# Altium integrated library Maxim Real-Time Clocks (RTCs).IntLib: 548 symbols (part 13 of 13)
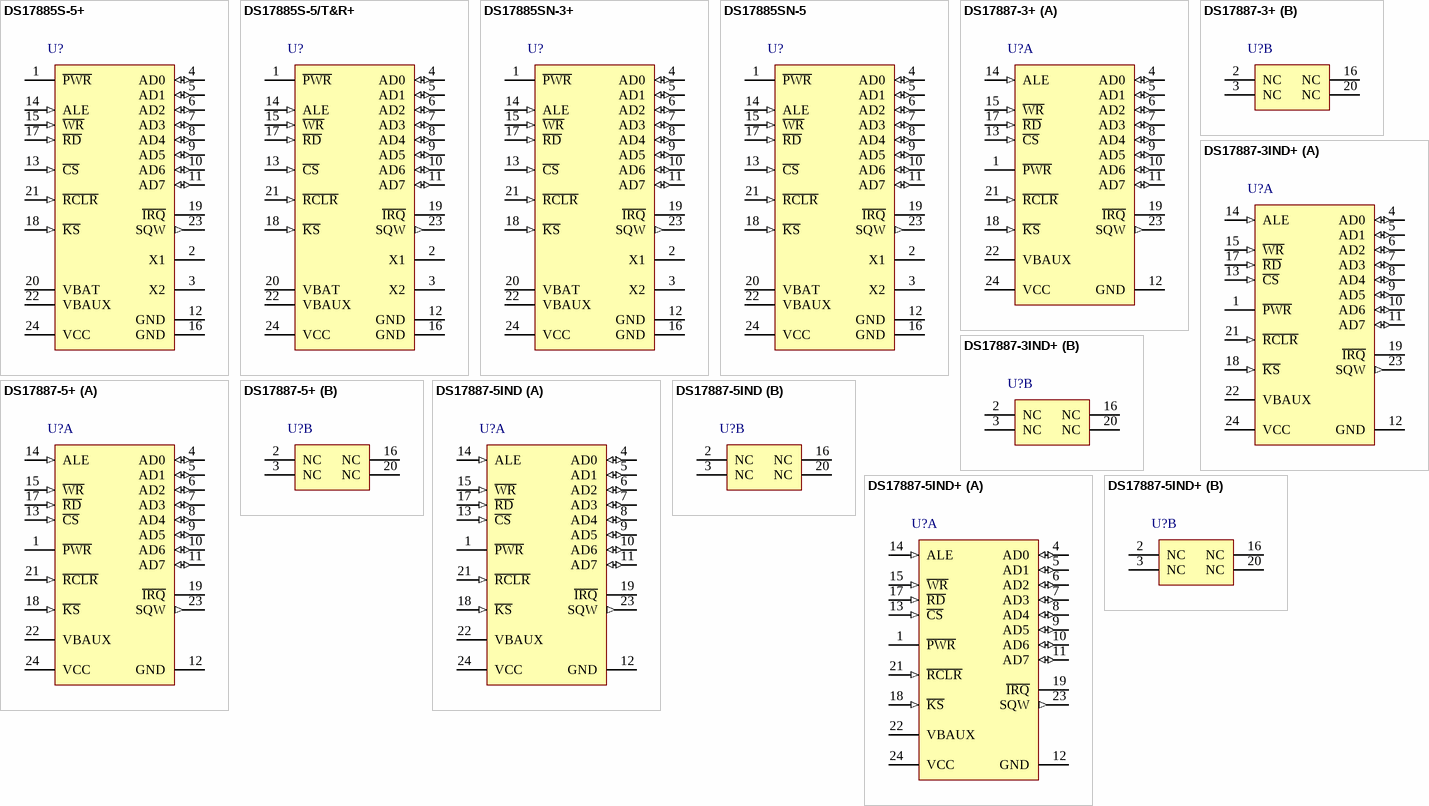
[diagram p33: symbols DS17885S-5+ to DS17887-5IND+]

## DS17885SN-3+
designator U?
Real-Time Clock, 8KB Extended Battery-Backed NV RAM, 3.0V, 24-Pin SO, -40 to 85 degC, Pb-Free; DatasheetVersion: Rev 1, Apr-2010; PackageVersion: revD, 2010; PackageReference: W24+10; PackageDescription: 24-Pin Small-Outline IC, Wide (0.3in), 1.27 mm Pitch, SOIC (W), Pb-Free; Code_JEDEC: MS-013-AD; ComponentLink1Description: Manufacturer URL; ComponentLink1URL: http://www.maxim-ic.com; ComponentLink2Description: Datasheet; ComponentLink2URL: http://datasheets.maxim-ic.com/en/ds/DS17285-DS17887.pdf; ComponentLink3Description: Package Specification; ComponentLink3URL: http://pdfserv.maxim-ic.com/package_dwgs/21-0042.PDF
footprint W24+10_N (SOIC, 24-Leads, Body 15.4x7.5mm, Pitch 1.27mm, IPC Medium Density)
footprint W24+10_L (SOIC, 24-Leads, Body 15.4x7.5mm, Pitch 1.27mm, IPC High Density)
footprint W24+10_M (SOIC, 24-Leads, Body 15.4x7.5mm, Pitch 1.27mm, IPC Low Density)
pins: 1 ~{PWR} (oc), 2 X1, 3 X2, 4 AD0 (io), 5 AD1 (io), 6 AD2 (io), 7 AD3 (io), 8 AD4 (io), 9 AD5 (io), 10 AD6 (io), 11 AD7 (io), 12 GND (power), 13 ~{CS} (in), 14 ALE (in), 15 ~{WR} (in), 16 GND (power), 17 ~{RD} (in), 18 ~{KS} (in), 19 ~{IRQ} (hiz), 20 VBAT (power), 21 ~{RCLR} (in), 22 VBAUX (power), 23 SQW (out), 24 VCC (power)

## DS17885SN-5
designator U?
Real-Time Clock, 8KB Extended Battery-Backed NV RAM, 5.0V, 24-Pin SO, -40 to 85 degC; DatasheetVersion: Rev 1, Apr-2010; PackageVersion: revD, 2010; PackageReference: W24-10; PackageDescription: 24-Pin Small-Outline IC, Wide (0.3in), 1.27 mm Pitch, SOIC (W); Code_JEDEC: MS-013-AD; ComponentLink1Description: Manufacturer URL; ComponentLink1URL: http://www.maxim-ic.com; ComponentLink2Description: Datasheet; ComponentLink2URL: http://datasheets.maxim-ic.com/en/ds/DS17285-DS17887.pdf; ComponentLink3Description: Package Specification; ComponentLink3URL: http://pdfserv.maxim-ic.com/package_dwgs/21-0042.PDF
footprint W24-10_N (SOIC, 24-Leads, Body 15.4x7.5mm, Pitch 1.27mm, IPC Medium Density)
footprint W24-10_L (SOIC, 24-Leads, Body 15.4x7.5mm, Pitch 1.27mm, IPC High Density)
footprint W24-10_M (SOIC, 24-Leads, Body 15.4x7.5mm, Pitch 1.27mm, IPC Low Density)
pins: 1 ~{PWR} (oc), 2 X1, 3 X2, 4 AD0 (io), 5 AD1 (io), 6 AD2 (io), 7 AD3 (io), 8 AD4 (io), 9 AD5 (io), 10 AD6 (io), 11 AD7 (io), 12 GND (power), 13 ~{CS} (in), 14 ALE (in), 15 ~{WR} (in), 16 GND (power), 17 ~{RD} (in), 18 ~{KS} (in), 19 ~{IRQ} (hiz), 20 VBAT (power), 21 ~{RCLR} (in), 22 VBAUX (power), 23 SQW (out), 24 VCC (power)

## DS17887-3+
designator U?
Real-Time Clock, 8KB Extended Battery-Backed NV RAM, 3.0V, 24-Pin EDIP, 0 to 70 degC, Pb-Free; DatasheetVersion: Rev 1, Apr-2010; PackageVersion: revA, Feb-2009; PackageReference: MDP24+2; PackageDescription: 24-Pin Encapsulated Dual-In-Line Module, 2.54 mm Pitch, EDIP, 740-mil, Pb-Free; ComponentLink1Description: Manufacturer URL; ComponentLink1URL: http://www.maxim-ic.com; ComponentLink2Description: Datasheet; ComponentLink2URL: http://datasheets.maxim-ic.com/en/ds/DS17285-DS17887.pdf; ComponentLink3Description: Package Specification; ComponentLink3URL: http://pdfserv.maxim-ic.com/package_dwgs/21-0241.PDF
footprint MDP24+2 (DIP; 24 Rectangular Pins, Body 33.8x18.5mm, Row Space 15.24mm, Pitch 2.54mm)
part A pins: 1 ~{PWR} (oc), 4 AD0 (io), 5 AD1 (io), 6 AD2 (io), 7 AD3 (io), 8 AD4 (io), 9 AD5 (io), 10 AD6 (io), 11 AD7 (io), 12 GND (power), 13 ~{CS} (in), 14 ALE (in), 15 ~{WR} (in), 17 ~{RD} (in), 18 ~{KS} (in), 19 ~{IRQ} (oc), 21 ~{RCLR} (in), 22 VBAUX (power), 23 SQW (out), 24 VCC (power)
part B pins: 2 NC, 3 NC, 16 NC, 20 NC

## DS17887-3IND+
designator U?
Real-Time Clock, 8KB Extended Battery-Backed NV RAM, 3.0V, 24-Pin EDIP, -40 to 85 degC, Pb-Free; DatasheetVersion: Rev 1, Apr-2010; PackageVersion: revA, Feb-2009; PackageReference: MDP24+2; PackageDescription: 24-Pin Encapsulated Dual-In-Line Module, 2.54 mm Pitch, EDIP, 740-mil, Pb-Free; ComponentLink1Description: Manufacturer URL; ComponentLink1URL: http://www.maxim-ic.com; ComponentLink2Description: Datasheet; ComponentLink2URL: http://datasheets.maxim-ic.com/en/ds/DS17285-DS17887.pdf; ComponentLink3Description: Package Specification; ComponentLink3URL: http://pdfserv.maxim-ic.com/package_dwgs/21-0241.PDF
footprint MDP24+2 (DIP; 24 Rectangular Pins, Body 33.8x18.5mm, Row Space 15.24mm, Pitch 2.54mm)
part A pins: 1 ~{PWR} (oc), 4 AD0 (io), 5 AD1 (io), 6 AD2 (io), 7 AD3 (io), 8 AD4 (io), 9 AD5 (io), 10 AD6 (io), 11 AD7 (io), 12 GND (power), 13 ~{CS} (in), 14 ALE (in), 15 ~{WR} (in), 17 ~{RD} (in), 18 ~{KS} (in), 19 ~{IRQ} (oc), 21 ~{RCLR} (in), 22 VBAUX (power), 23 SQW (out), 24 VCC (power)
part B pins: 2 NC, 3 NC, 16 NC, 20 NC

## DS17887-5+
designator U?
Real-Time Clock, 8KB Extended Battery-Backed NV RAM, 5.0V, 24-Pin EDIP, 0 to 70 degC, Pb-Free; DatasheetVersion: Rev 1, Apr-2010; PackageVersion: revA, Feb-2009; PackageReference: MDP24+2; PackageDescription: 24-Pin Encapsulated Dual-In-Line Module, 2.54 mm Pitch, EDIP, 740-mil, Pb-Free; ComponentLink1Description: Manufacturer URL; ComponentLink1URL: http://www.maxim-ic.com; ComponentLink2Description: Datasheet; ComponentLink2URL: http://datasheets.maxim-ic.com/en/ds/DS17285-DS17887.pdf; ComponentLink3Description: Package Specification; ComponentLink3URL: http://pdfserv.maxim-ic.com/package_dwgs/21-0241.PDF
footprint MDP24+2 (DIP; 24 Rectangular Pins, Body 33.8x18.5mm, Row Space 15.24mm, Pitch 2.54mm)
part A pins: 1 ~{PWR} (oc), 4 AD0 (io), 5 AD1 (io), 6 AD2 (io), 7 AD3 (io), 8 AD4 (io), 9 AD5 (io), 10 AD6 (io), 11 AD7 (io), 12 GND (power), 13 ~{CS} (in), 14 ALE (in), 15 ~{WR} (in), 17 ~{RD} (in), 18 ~{KS} (in), 19 ~{IRQ} (oc), 21 ~{RCLR} (in), 22 VBAUX (power), 23 SQW (out), 24 VCC (power)
part B pins: 2 NC, 3 NC, 16 NC, 20 NC

## DS17887-5IND
designator U?
Real-Time Clock, 8KB Extended Battery-Backed NV RAM, 5.0V, 24-Pin EDIP, -40 to 85 degC; DatasheetVersion: Rev 1, Apr-2010; PackageVersion: revA, Feb-2009; PackageReference: MDP24-2; PackageDescription: 24-Pin Encapsulated Dual-In-Line Module, 2.54 mm Pitch, EDIP, 740-mil; ComponentLink1Description: Manufacturer URL; ComponentLink1URL: http://www.maxim-ic.com; ComponentLink2Description: Datasheet; ComponentLink2URL: http://datasheets.maxim-ic.com/en/ds/DS17285-DS17887.pdf; ComponentLink3Description: Package Specification; ComponentLink3URL: http://pdfserv.maxim-ic.com/package_dwgs/21-0241.PDF
footprint MDP24-2 (DIP; 24 Rectangular Pins, Body 33.8x18.5mm, Row Space 15.24mm, Pitch 2.54mm)
part A pins: 1 ~{PWR} (oc), 4 AD0 (io), 5 AD1 (io), 6 AD2 (io), 7 AD3 (io), 8 AD4 (io), 9 AD5 (io), 10 AD6 (io), 11 AD7 (io), 12 GND (power), 13 ~{CS} (in), 14 ALE (in), 15 ~{WR} (in), 17 ~{RD} (in), 18 ~{KS} (in), 19 ~{IRQ} (oc), 21 ~{RCLR} (in), 22 VBAUX (power), 23 SQW (out), 24 VCC (power)
part B pins: 2 NC, 3 NC, 16 NC, 20 NC

## DS17887-5IND+
designator U?
Real-Time Clock, 8KB Extended Battery-Backed NV RAM, 5.0V, 24-Pin EDIP, -40 to 85 degC, Pb-Free; DatasheetVersion: Rev 1, Apr-2010; PackageVersion: revA, Feb-2009; PackageReference: MDP24+2; PackageDescription: 24-Pin Encapsulated Dual-In-Line Module, 2.54 mm Pitch, EDIP, 740-mil, Pb-Free; ComponentLink1Description: Manufacturer URL; ComponentLink1URL: http://www.maxim-ic.com; ComponentLink2Description: Datasheet; ComponentLink2URL: http://datasheets.maxim-ic.com/en/ds/DS17285-DS17887.pdf; ComponentLink3Description: Package Specification; ComponentLink3URL: http://pdfserv.maxim-ic.com/package_dwgs/21-0241.PDF
footprint MDP24+2 (DIP; 24 Rectangular Pins, Body 33.8x18.5mm, Row Space 15.24mm, Pitch 2.54mm)
part A pins: 1 ~{PWR} (oc), 4 AD0 (io), 5 AD1 (io), 6 AD2 (io), 7 AD3 (io), 8 AD4 (io), 9 AD5 (io), 10 AD6 (io), 11 AD7 (io), 12 GND (power), 13 ~{CS} (in), 14 ALE (in), 15 ~{WR} (in), 17 ~{RD} (in), 18 ~{KS} (in), 19 ~{IRQ} (oc), 21 ~{RCLR} (in), 22 VBAUX (power), 23 SQW (out), 24 VCC (power)
part B pins: 2 NC, 3 NC, 16 NC, 20 NC